# Altium footprint library B3202X.PcbLib: 35 footprints (part 2 of 3)
Each footprint in its own frame and in the unit in brackets; x right, y up, seen from the top. Pads: shape width x height; smd on the part's side, far side on the other; paste and mask are expansions set on the pad; w line width, h text height; cw(c..) or ccw(c..) is an arc to the next point about the centre after c.
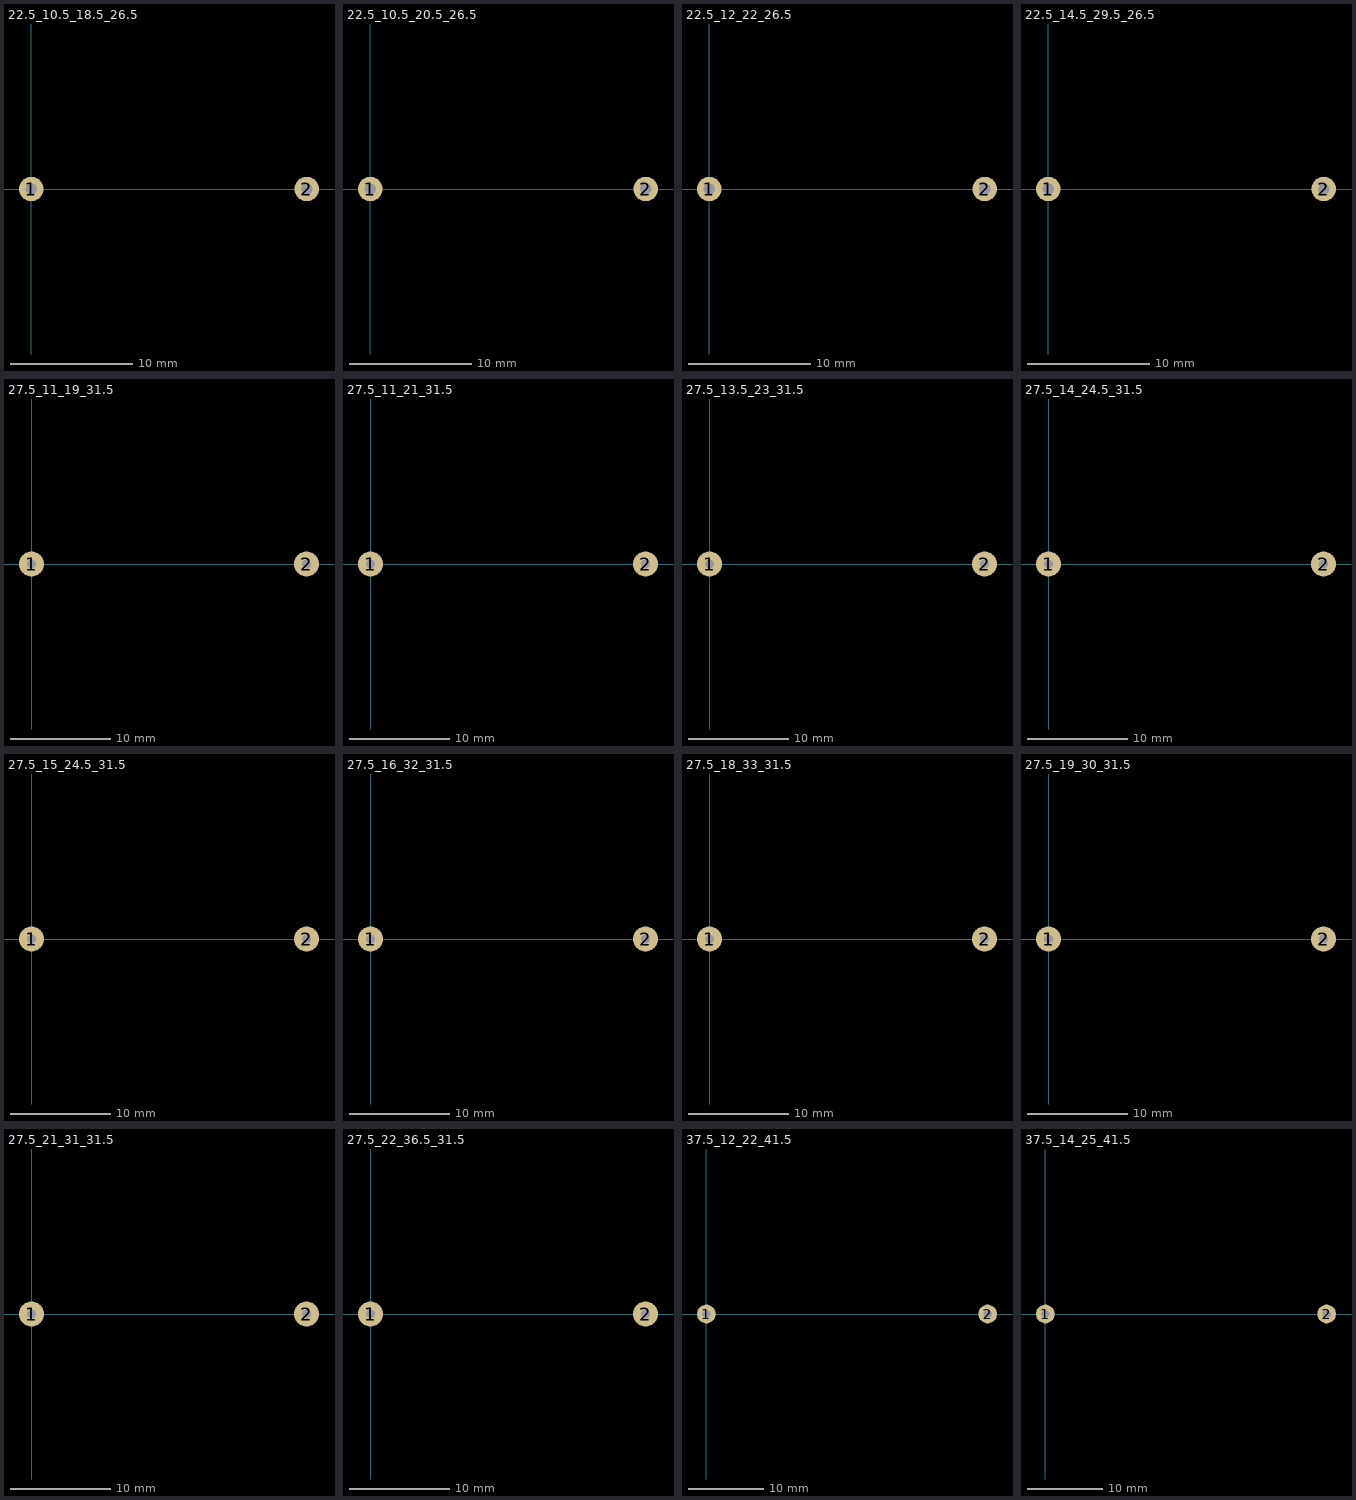
[diagram p1: the footprints below, top view; thin cyan lines are the x and y axes]

## 22.5_10.5_18.5_26.5 [mm]
pads (2):
  round 2 hole 0.9: 1(0,0) 2(22.5,0)

## 22.5_10.5_20.5_26.5 [mm]
pads (2):
  round 2 hole 0.9: 1(0,0) 2(22.5,0)

## 22.5_12_22_26.5 [mm]
pads (2):
  round 2 hole 0.9: 1(0,0) 2(22.5,0)

## 22.5_14.5_29.5_26.5 [mm]
pads (2):
  round 2 hole 0.9: 1(0,0) 2(22.5,0)

## 27.5_11_19_31.5 [mm]
pads (2):
  round 2.5 hole 0.9: 1(0,0) 2(27.5,0)

## 27.5_11_21_31.5 [mm]
pads (2):
  round 2.5 hole 0.9: 1(0,0) 2(27.5,0)

## 27.5_13.5_23_31.5 [mm]
pads (2):
  round 2.5 hole 0.9: 1(0,0) 2(27.5,0)

## 27.5_14_24.5_31.5 [mm]
pads (2):
  round 2.5 hole 0.9: 1(0,0) 2(27.5,0)

## 27.5_15_24.5_31.5 [mm]
pads (2):
  round 2.5 hole 0.9: 1(0,0) 2(27.5,0)

## 27.5_16_32_31.5 [mm]
pads (2):
  round 2.5 hole 0.9: 1(0,0) 2(27.5,0)

## 27.5_18_33_31.5 [mm]
pads (2):
  round 2.5 hole 0.9: 1(0,0) 2(27.5,0)

## 27.5_19_30_31.5 [mm]
pads (2):
  round 2.5 hole 0.9: 1(0,0) 2(27.5,0)

## 27.5_21_31_31.5 [mm]
pads (2):
  round 2.5 hole 0.9: 1(0,0) 2(27.5,0)

## 27.5_22_36.5_31.5 [mm]
pads (2):
  round 2.5 hole 0.9: 1(0,0) 2(27.5,0)

## 37.5_12_22_41.5 [mm]
pads (2):
  round 2.5 hole 1.1: 1(0,0) 2(37.5,0)

## 37.5_14_25_41.5 [mm]
pads (2):
  round 2.5 hole 1.1: 1(0,0) 2(37.5,0)